# EAGLE library part THAT1580 (library THAT1580)
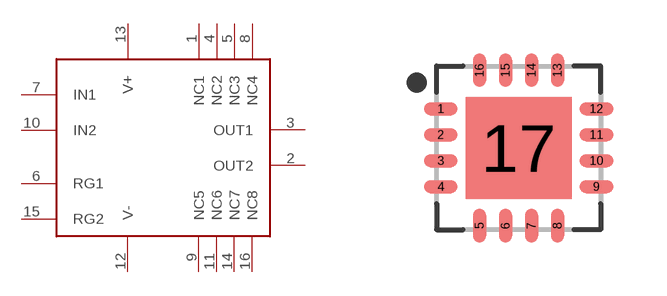
[diagram p0: symbol with the pads of QFN65P400X400X95-17T265X255; footprint QFN65P400X400X95-17T265X255]

Designator prefix -

## THAT1580  [QFN65P400X400X95-17T265X255]
1  NC1
2  OUT2
3  OUT1
4  NC2
5  NC3
6  RG1
7  IN1
8  NC4
9  NC5
10  IN2
11  NC6
12  V-
13  V+
14  NC7
15  RG2
16  NC8

## Footprint QFN65P400X400X95-17T265X255 (pad centres in mm)
16-QFN, 0.65 mm pitch, 4.00 X 4.00 X 0.95 mm body, 2.55 X 2.65 mm thermal pad 16-pin QFN package with 0.65 mm pitch with body size 4.00 X 4.00 X 0.95 mm and thermal pad size 2.55 X 2.65 mm
smd 0.838 x 0.32: 1 -1.946,0.975; 2 -1.946,0.325; 3 -1.946,-0.325; 4 -1.946,-0.975; 9 1.946,-0.975; 10 1.946,-0.325; 11 1.946,0.325; 12 1.946,0.975
smd 0.32 x 0.838: 5 -0.975,-1.946; 6 -0.325,-1.946; 7 0.325,-1.946; 8 0.975,-1.946; 13 0.975,1.946; 14 0.325,1.946; 15 -0.325,1.946; 16 -0.975,1.946
smd 2.65 x 2.55: 17 0,0